# Altium footprint library Smart_lockV1.1.PcbLib: 33 footprints (part 2 of 3)
Each footprint in its own frame and in the unit in brackets; x right, y up, seen from the top. Pads: shape width x height; smd on the part's side, far side on the other; paste and mask are expansions set on the pad; w line width, h text height; cw(c..) or ccw(c..) is an arc to the next point about the centre after c.
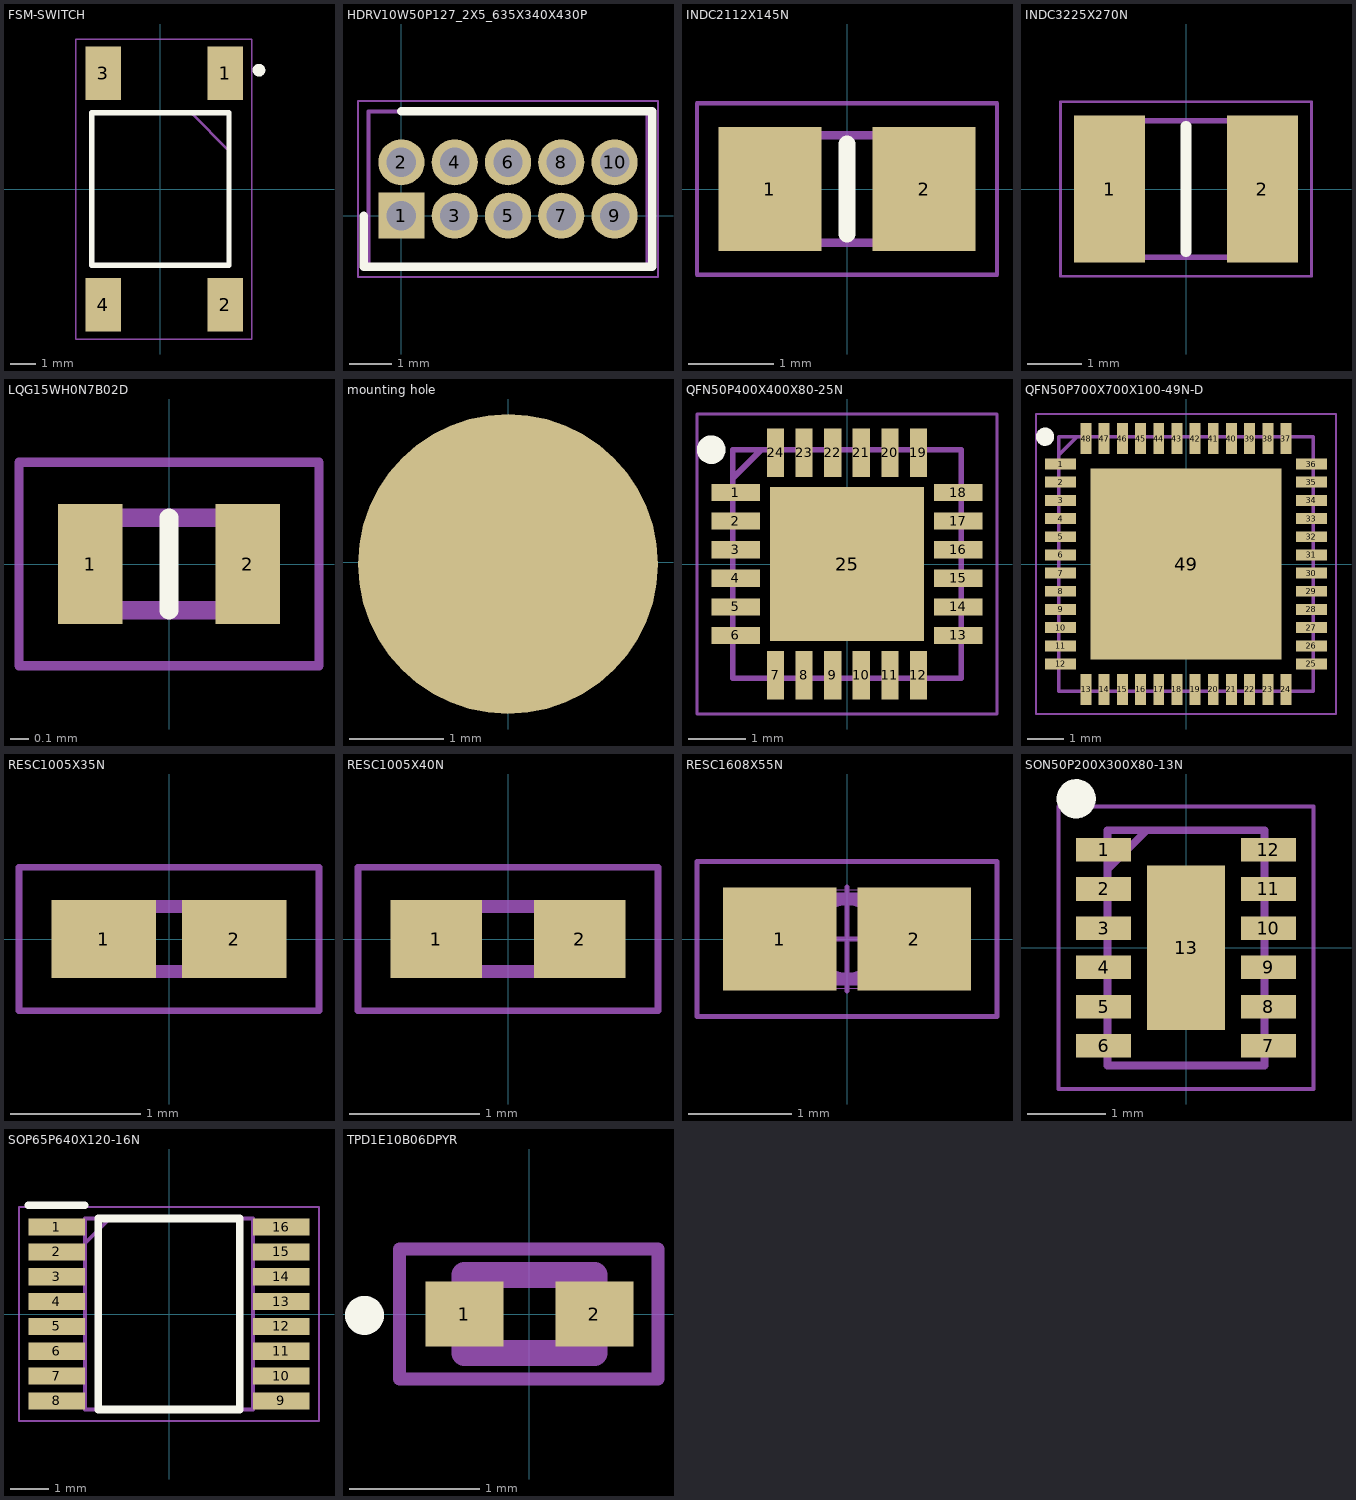
[diagram p1: the footprints below, top view; thin cyan lines are the x and y axes]

## FSM-SWITCH [mm]
pads (4):
  rect 1.4x2.1 smd: 1(2.55,4.55) 2(2.55,-4.55) 3(-2.25,4.55) 4(-2.25,-4.55)
Top Overlay:
  circle w0.25: c3.875,4.675 r0.125
  lines w0.2: -2.7,-3 -2.7,3 2.7,3 2.7,-3 -2.7,-3
Mechanical 13:
  lines w0.1: 1.275,2.925 2.625,1.575 ; -2.7,-3 -2.7,3 2.7,3 2.7,-3 -2.7,-3
Mechanical 15:
  lines w0.05: -3.325,-5.9 -3.325,5.9 3.6,5.9 3.6,-5.9 -3.325,-5.9
3D body "4-1437565-1.stp": height 5.07, standoff 0, extent -2.69,-5 3.31,5

## HDRV10W50P127_2X5_635X340X430P [mm]
pads (10):
  rect 1.1x1.1 hole 0.7: 1(0,0)
  round 1.1 hole 0.7: 2(0,1.27) 3(1.27,0) 4(1.27,1.27) 5(2.54,0) 6(2.54,1.27) 7(3.81,0) 8(3.81,1.27) 9(5.08,0) 10(5.08,1.27)
Top Overlay:
  lines w0.2: -0.9,0 -0.9,-1.215 5.98,-1.215 5.98,2.485 0,2.485
Mechanical 13:
  lines w0.1: -0.785,-1.215 5.865,-1.215 5.865,2.485 -0.785,2.485 -0.785,-1.215
Mechanical 15:
  lines w0.05: -1.035,-1.465 6.115,-1.465 6.115,2.735 -1.035,2.735 -1.035,-1.465
3D body "GRPB052VWVN-RC.stp": height 4.3, standoff -2.6, extent -0.635,-1.065 5.715,2.335

## INDC2112X145N [mm]
pads (2):
  rect 1.2x1.45 smd: 1(-0.9,0) 2(0.9,0)
Top Overlay:
  lines w0.2: 0,-0.525 0,0.525
Mechanical 13:
  lines w0.1: -1.05,-0.625 -1.05,0.625 1.05,0.625 1.05,-0.625 -1.05,-0.625
Mechanical 15:
  lines w0.05: -1.75,-1 -1.75,1 1.75,1 1.75,-1 -1.75,-1
3D body "CKS2125100M-T.stp": height 1.45, standoff 0, extent -1.05,-0.625 1.05,0.625

## INDC3225X270N [mm]
pads (2):
  rect 1.3x2.7 smd: 1(-1.4,0) 2(1.4,0)
Top Overlay:
  lines w0.2: 0,-1.15 0,1.15
Mechanical 13:
  lines w0.1: -1.6,-1.25 -1.6,1.25 1.6,1.25 1.6,-1.25 -1.6,-1.25
Mechanical 15:
  lines w0.05: -2.3,-1.6 -2.3,1.6 2.3,1.6 2.3,-1.6 -2.3,-1.6
3D body "CBC3225T4R7MRV.stp": height 2.7, standoff 0, extent -1.6,-1.25 1.6,1.25

## LQG15WH0N7B02D [mm]
pads (2):
  rect 0.35x0.65 smd: 1(-0.425,0) 2(0.425,0)
Top Overlay:
  lines w0.1: 0,-0.25 0,0.25
Mechanical 13:
  lines w0.1: -0.5,-0.25 0.5,-0.25 0.5,0.25 -0.5,0.25 -0.5,-0.25
Mechanical 15:
  lines w0.05: -0.81,-0.55 0.81,-0.55 0.81,0.55 -0.81,0.55 -0.81,-0.55
3D body "LQG15HN2N4S02D.stp": height 0.55, standoff 0, extent -0.5,-0.25 0.5,0.25

## mounting hole [mm]
pads (1):
  round 3.2 all layers, no hole paste-2539.97 mask-2539.97: ""(0,-0.02)
Top Solder:
  circle w1.7: c0,-0.02 r0.85
Bottom Solder:
  circle w1.7: c0,-0.02 r0.85

## PCBComponent_1 [mm]

## PCBComponent_1 - duplicate [mm]

## QFN50P400X400X80-25N [mm]
pads (25):
  rect 0.85x0.3 smd: 1(-1.95,1.25) 2(-1.95,0.75) 3(-1.95,0.25) 4(-1.95,-0.25) 5(-1.95,-0.75) 6(-1.95,-1.25) 13(1.95,-1.25) 14(1.95,-0.75) 15(1.95,-0.25) 16(1.95,0.25) 17(1.95,0.75) 18(1.95,1.25)
  rect 0.3x0.85 smd: 7(-1.25,-1.95) 8(-0.75,-1.95) 9(-0.25,-1.95) 10(0.25,-1.95) 11(0.75,-1.95) 12(1.25,-1.95) 19(1.25,1.95) 20(0.75,1.95) 21(0.25,1.95) 22(-0.25,1.95) 23(-0.75,1.95) 24(-1.25,1.95)
  rect 2.7x2.7 smd: 25(0,0)
Top Overlay:
  circle w0.25: c-2.375,2 r0.125
Mechanical 13:
  lines w0.1: -2,1.5 -1.5,2 ; -2,-2 2,-2 2,2 -2,2 -2,-2
Mechanical 15:
  lines w0.05: -2.625,-2.625 2.625,-2.625 2.625,2.625 -2.625,2.625 -2.625,-2.625
3D body "LP55231SQX_NOPB.stp": height 0.8, standoff 0, extent -2,-2 2,2

## QFN50P700X700X100-49N-D [mm]
pads (49):
  rect 0.85x0.3 smd: 1(-3.45,2.75) 2(-3.45,2.25) 3(-3.45,1.75) 4(-3.45,1.25) 5(-3.45,0.75) 6(-3.45,0.25) 7(-3.45,-0.25) 8(-3.45,-0.75) 9(-3.45,-1.25) 10(-3.45,-1.75) 11(-3.45,-2.25) 12(-3.45,-2.75) 25(3.45,-2.75) 26(3.45,-2.25) 27(3.45,-1.75) 28(3.45,-1.25) 29(3.45,-0.75) 30(3.45,-0.25) 31(3.45,0.25) 32(3.45,0.75) 33(3.45,1.25) 34(3.45,1.75) 35(3.45,2.25) 36(3.45,2.75)
  rect 0.3x0.85 smd: 13(-2.75,-3.45) 14(-2.25,-3.45) 15(-1.75,-3.45) 16(-1.25,-3.45) 17(-0.75,-3.45) 18(-0.25,-3.45) 19(0.25,-3.45) 20(0.75,-3.45) 21(1.25,-3.45) 22(1.75,-3.45) 23(2.25,-3.45) 24(2.75,-3.45) 37(2.75,3.45) 38(2.25,3.45) 39(1.75,3.45) 40(1.25,3.45) 41(0.75,3.45) 42(0.25,3.45) 43(-0.25,3.45) 44(-0.75,3.45) 45(-1.25,3.45) 46(-1.75,3.45) 47(-2.25,3.45) 48(-2.75,3.45)
  rect 5.25x5.25 smd: 49(0,0)
Top Overlay:
  circle w0.25: c-3.875,3.5 r0.125
Mechanical 13:
  lines w0.1: -3.5,3 -3,3.5 ; -3.5,-3.5 3.5,-3.5 3.5,3.5 -3.5,3.5 -3.5,-3.5
Mechanical 15:
  lines w0.05: -4.125,-4.125 4.125,-4.125 4.125,4.125 -4.125,4.125 -4.125,-4.125
3D body "CC2640R2FTWRGZTQ1.stp": height 1, standoff 0, extent -3.5,-3.5 3.5,3.5

## RESC1005X35N [mm]
pads (2):
  rect 0.8x0.6 smd: 1(-0.5,0) 2(0.5,0)
Mechanical 13:
  lines w0.1: -0.5,-0.25 0.5,-0.25 0.5,0.25 -0.5,0.25 -0.5,-0.25
Mechanical 15:
  lines w0.05: -1.15,-0.55 1.15,-0.55 1.15,0.55 -1.15,0.55 -1.15,-0.55
3D body "RMCF0402FT100K.stp": height 0.3, standoff 0, extent -0.504,-0.246 0.496,0.254

## RESC1005X40N [mm]
pads (2):
  rect 0.7x0.6 smd: 1(-0.55,0) 2(0.55,0)
Mechanical 13:
  lines w0.1: -0.5,-0.25 -0.5,0.25 0.5,0.25 0.5,-0.25 -0.5,-0.25
Mechanical 15:
  lines w0.05: -1.15,-0.55 -1.15,0.55 1.15,0.55 1.15,-0.55 -1.15,-0.55
3D body "CRCW04020000Z0EEHP.stp": height 0.4, standoff 0, extent -0.5,-0.25 0.5,0.25

## RESC1608X55N [mm]
pads (2):
  rect 1.1x1 smd: 1(-0.65,0) 2(0.65,0)
Mechanical 13:
  lines w0.1: -0.8,-0.4 0.8,-0.4 0.8,0.4 -0.8,0.4 -0.8,-0.4
Mechanical 15:
  circle w0.05: c0,0 r0.35
  lines w0.001: -0.85,-0.475 0.85,-0.475 0.85,0.475 -0.85,0.475 -0.85,-0.475
  lines w0.05: -0.5,0 0.5,0 ; 0,-0.5 0,0.5 ; -1.45,-0.75 1.45,-0.75 1.45,0.75 -1.45,0.75 -1.45,-0.75
3D body "RC0603FR-0738K3L.stp": height 0.55, standoff 0, extent -0.8,-0.4 0.8,0.4

## SON50P200X300X80-13N [mm]
pads (13):
  rect 0.7x0.3 smd: 1(-1.05,1.25) 2(-1.05,0.75) 3(-1.05,0.25) 4(-1.05,-0.25) 5(-1.05,-0.75) 6(-1.05,-1.25) 7(1.05,-1.25) 8(1.05,-0.75) 9(1.05,-0.25) 10(1.05,0.25) 11(1.05,0.75) 12(1.05,1.25)
  rect 1x2.1 smd: 13(0,0)
Top Overlay:
  circle w0.25: c-1.4,1.9 r0.125
Mechanical 13:
  lines w0.1: -1,1 -0.5,1.5 ; -1,-1.5 -1,1.5 1,1.5 1,-1.5 -1,-1.5
Mechanical 15:
  lines w0.05: -1.625,-1.8 -1.625,1.8 1.625,1.8 1.625,-1.8 -1.625,-1.8
3D body "TPS62745DSSR.stp": height 0.8, standoff 0, extent -1,-1.5 1,1.5

## SOP65P640X120-16N [mm]
pads (16):
  rect 1.475x0.45 smd: 1(-2.938,2.275) 2(-2.938,1.625) 3(-2.938,0.975) 4(-2.938,0.325) 5(-2.938,-0.325) 6(-2.938,-0.975) 7(-2.938,-1.625) 8(-2.938,-2.275) 9(2.938,-2.275) 10(2.938,-1.625) 11(2.938,-0.975) 12(2.938,-0.325) 13(2.938,0.325) 14(2.938,0.975) 15(2.938,1.625) 16(2.938,2.275)
Top Overlay:
  lines w0.2: -3.675,2.85 -2.2,2.85 ; -1.85,-2.5 1.85,-2.5 1.85,2.5 -1.85,2.5 -1.85,-2.5
Mechanical 13:
  lines w0.1: -2.2,1.85 -1.55,2.5 ; -2.2,-2.5 2.2,-2.5 2.2,2.5 -2.2,2.5 -2.2,-2.5
Mechanical 15:
  lines w0.05: -3.925,-2.8 3.925,-2.8 3.925,2.8 -3.925,2.8 -3.925,-2.8
3D body "DRV8833PWPR.stp": height 1.13, standoff 0, extent -3.2,-2.5 3.2,2.5

## TPD1E10B06DPYR [mm]
pads (2):
  rect 0.6x0.5 smd: 1(-0.5,0) 2(0.5,0)
Top Overlay:
  lines w0.2: -1.22,-0.012 cw(c-1.27,-0.01) -1.32,-0.01 ; -1.32,-0.01 cw(c-1.27,-0.01) -1.22,-0.01 cw(c-1.27,-0.01) -1.32,-0.01
Mechanical 13:
  lines w0.2: -0.5,-0.3 0.5,-0.3 0.5,0.3 -0.5,0.3 -0.5,-0.3
Mechanical 15:
  lines w0.1: -1,-0.5 0.99,-0.5 0.99,0.5 -1,0.5 -1,-0.5
3D body "TPD1E10B06DPYR.stp": height 0.38, standoff 0, extent -0.5,-0.3 0.5,0.3